# EAGLE library part EXB-18VXXXJX (library Discrete)
Panasonic EXB-18VxxxJX 0201 Resistor Array
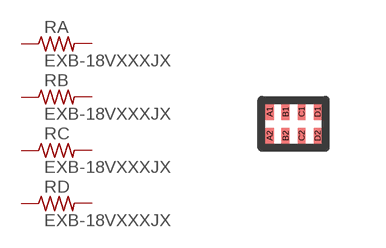
[diagram p11: symbol with the pads of EXB18V; footprint EXB18V]

Designator prefix R; gates A=RESISTOR B=RESISTOR C=RESISTOR D=RESISTOR

## EXB-18VXXXJX  [EXB18V]
A1  A:1  pas
A2  A:2  pas
B1  B:1  pas
B2  B:2  pas
C1  C:1  pas
C2  C:2  pas
D1  D:1  pas
D2  D:2  pas

## Footprint EXB18V (pad centres in mm)
Panasonic 0201 8 Terminal Resistor Array
smd 0.2 x 0.4: A1 -0.6,0.3; A2 -0.6,-0.3; B1 -0.2,0.3; B2 -0.2,-0.3; C1 0.2,0.3; C2 0.2,-0.3; D1 0.6,0.3; D2 0.6,-0.3